# EAGLE library part RJ45-MAGNET-LED-2CT (library Header and Connector)
RJ45 Connector with Magnetics and LEDs (2 Center Tabs) Created By: Wai Weng
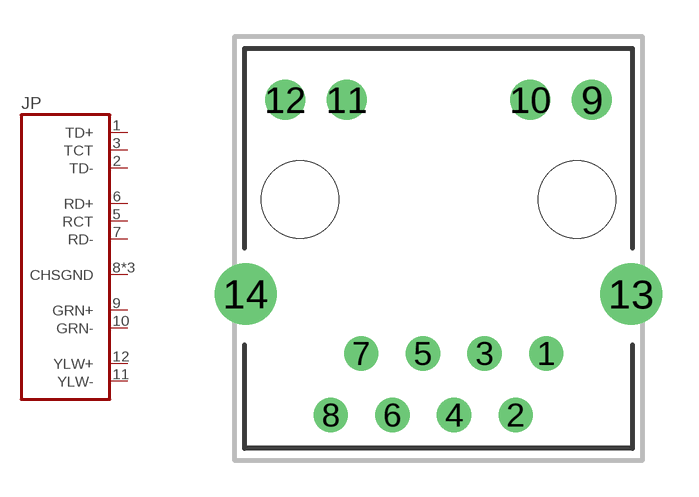
[diagram p40: symbol with the pads of RJ45-HY951180A; footprint RJ45-HY951180A]

Designator prefix JP

## RJ45-MAGNET-LED-2CT (DESC: RJ45 Magnetics LED 2CT; MF: Han Run; MPN: HY951180A)  [RJ45-HY951180A]
1  TD+
2  TD-
3  TCT
5  RCT
6  RD+
7  RD-
8  CHSGND
9  GRN+
10  GRN-
11  YLW-
12  YLW+
13  CHSGND
14  CHSGND

## Footprint RJ45-HY951180A (pad centres in mm)
RJ45 with Magnetics and LEDs (HanRun HY951180A) Created by: Wai Weng
drill 0.9: 1 4.44,-6.35; 2 3.18,-8.89; 3 1.9,-6.35; 4 0.64,-8.89; 5 -0.64,-6.35; 6 -1.9,-8.89; 7 -3.18,-6.35; 8 -4.44,-8.89
drill 1.1: 9 6.325,4.11; 10 3.785,4.11; 11 -3.785,4.11; 12 -6.325,4.11
drill 1.7: 13 7.95,-3.9; 14 -7.95,-3.9
hole 3.2 at -5.715,0
hole 3.2 at 5.715,0